# EAGLE library part PIC16F15213-I_SN (library SamacSys_Parts)
8-bit Microcontrollers - MCU Source: Datasheet <https://ww1.microchip.com/downloads/en/DeviceDoc/PIC16F15213-14-23-24-43-44-Data-Sheet-DS40002195B.pdf>
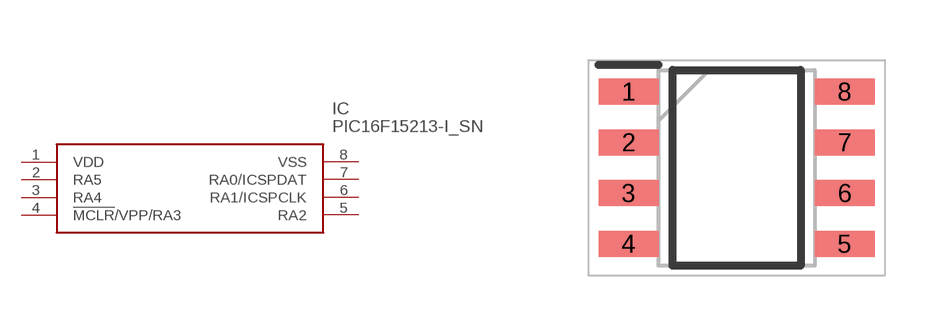
[diagram p1: symbol with the pads of SOIC127P600X175-8N; footprint SOIC127P600X175-8N]

Designator prefix IC

## PIC16F15213-I_SN (Description: 8-bit Microcontrollers - MCU; Height: 1.75mm; Manufacturer_Name: Microchip; Manufacturer_Part_Number: PIC16F15213-I/SN; Mouser_Part_Number: 579-PIC16F15213-I/SN; Mouser_Price-Stock: https://www.mouser.co.uk/ProductDetail/Microchip-Technology/PIC16F15213-I-SN/?qs=xZ%2FP%252Ba9zWqYiVkzeoDlM6Q%3D%3D)  [SOIC127P600X175-8N]
1  VDD
2  RA5
3  RA4
4  !MCLR!/VPP/RA3
5  RA2
6  RA1/ICSPCLK
7  RA0/ICSPDAT
8  VSS

## Footprint SOIC127P600X175-8N (pad centres in mm)
8-LEAD PLASTIC SMALL OUTLINE (SN)
smd 1.5 x 0.65: 1 -2.7,1.905; 2 -2.7,0.635; 3 -2.7,-0.635; 4 -2.7,-1.905; 5 2.7,-1.905; 6 2.7,-0.635; 7 2.7,0.635; 8 2.7,1.905